# EAGLE library part PZEM-004T (library FansElectronics-Modul)
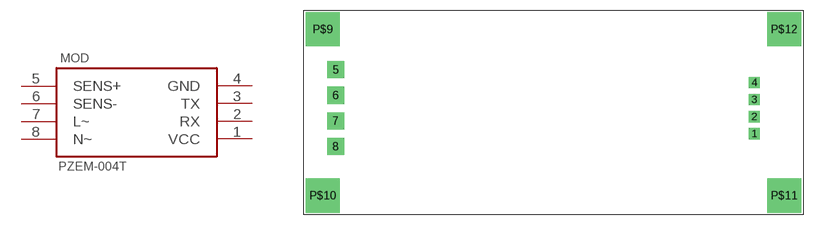
[diagram p18: symbol with the pads of PZEM-004T; footprint PZEM-004T]

Designator prefix MOD

## PZEM-004T  [PZEM-004T]
1  VCC
2  RX
3  TX
4  GND
5  SENS+
6  SENS-
7  L~
8  N~

## Footprint PZEM-004T (pad centres in mm)
drill 0.9 pad 1.676 square: 1 38.1,-3.81; 2 38.1,-1.27; 3 38.1,1.27; 4 38.1,3.81
drill 1.2 pad 2.54 square: 5 -24.13,5.715; 6 -24.13,1.905; 7 -24.13,-1.905; 8 -24.13,-5.715
drill 3.2 pad 5.08 square: P$9 -26.035,11.748; P$10 -26.035,-13.018; P$11 42.545,-13.018; P$12 42.545,11.748